# EAGLE library part SSM2166 (library DAC)
Microphone Preamplifier with Variable Compression and Noise Gating Source: http://www.analog.com/static/imported-files/data_sheets/SSM2166.pdf
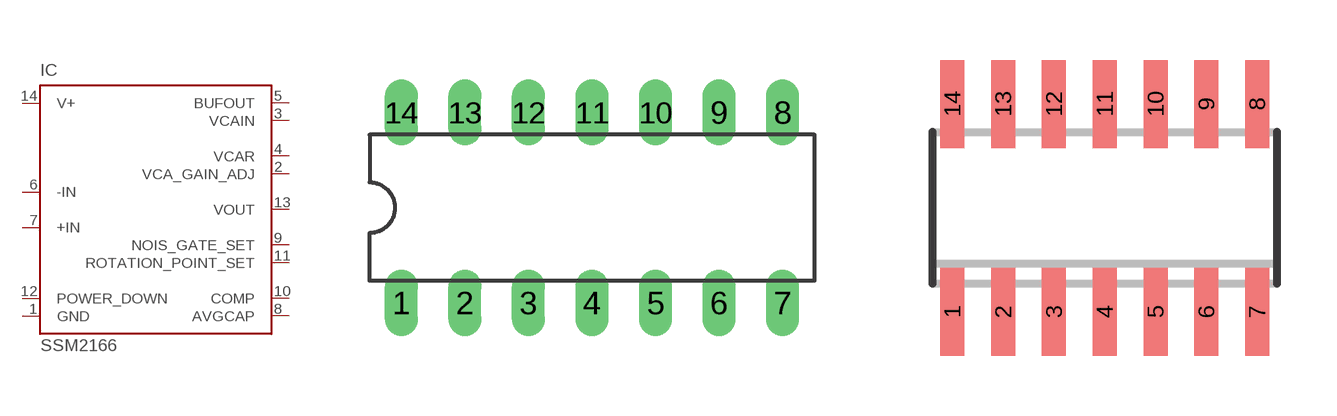
[diagram p69: symbol with the pads of DIL14; footprints DIL14, SO14]

Designator prefix IC

## SSM2166P (OC_FARNELL: unknown; OC_NEWARK: unknown)  [DIL14]
1  GND  pwr
2  VCA_GAIN_ADJ  in
3  VCAIN  in
4  VCAR  in
5  BUFOUT  out
6  -IN  in
7  +IN  in
8  AVGCAP  pas
9  NOIS_GATE_SET  pas
10  COMP  pas
11  ROTATION_POINT_SET  pas
12  POWER_DOWN  in
13  VOUT  out
14  V+  pwr

## SSM2166S (MF: ALTERA CORPORATION; MPN: SSM2166S-REEL; OC_FARNELL: 1424669; OC_NEWARK: 13B4818)  [SO14]
Pads as for DIL14

## Footprint DIL14 (pad centres in mm)
Dual In Line Package
drill 0.813 long: 1 -7.62,-3.81; 2 -5.08,-3.81; 3 -2.54,-3.81; 4 0,-3.81; 5 2.54,-3.81; 6 5.08,-3.81; 7 7.62,-3.81; 8 7.62,3.81; 9 5.08,3.81; 10 2.54,3.81; 11 0,3.81; 12 -2.54,3.81; 13 -5.08,3.81; 14 -7.62,3.81

## Footprint SO14 (pad centres in mm)
14-Lead Narrow-Body SOIC (SO-14) Source: http://www.analog.com/static/imported-files/data_sheets/SSM2166.pdf
smd 0.6 x 2.2: 1 -3.81,-2.6; 2 -2.54,-2.6; 3 -1.27,-2.6; 4 0,-2.6; 5 1.27,-2.6; 6 2.54,-2.6; 7 3.81,-2.6; 8 3.81,2.6; 9 2.54,2.6; 10 1.27,2.6; 11 0,2.6; 12 -1.27,2.6; 13 -2.54,2.6; 14 -3.81,2.6